# Altium schematic symbol library MOS管.SchLib: 8 symbols
Pins are listed as number, name and electrical type; pins without a type are passive.

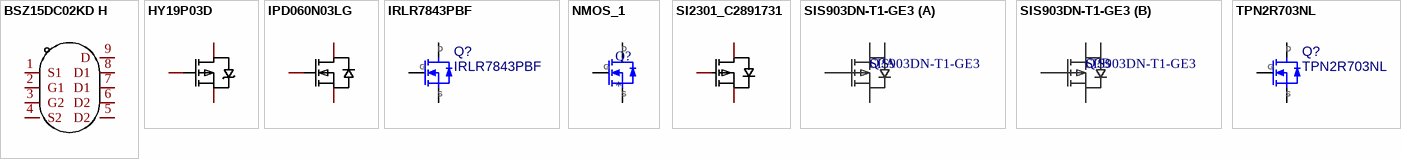
[diagram p0: symbols BSZ15DC02KD H to TPN2R703NL]

## BSZ15DC02KD H
designator Q??  (value not drawn)
Manufacturer: Infineon(英飞凌); Add into BOM: yes; Name: BSZ15DC02KD H; Symbol: BSZ15DC02KD H; Device: BSZ15DC02KD H; LCSC Part Name: BSZ15DC02KD H; Supplier Part: C534710; Manufacturer Part: BSZ15DC02KD H; Supplier Footprint: TSDSON-8(3.3x3.3); JLCPCB Part Class: Extended Part; Datasheet: https://atta.szlcsc.com/upload/public/pdf/source/20200519/C534710_F3CBDCD13CCB82028A5A6F9EF6190EE5.pdf; Supplier: LCSC; Convert to PCB: yes; Type: -; Drain Source Voltage (Vdss): -; Continuous Drain Current (Id): -; Power Dissipation (Pd): -; Drain Source On Resistance (RDS(on)@Vgs,Id): -; Gate Threshold Voltage (Vgs(th)@Id): -; Total Gate Charge (Qg@Vgs): -; Input Capacitance (Ciss@Vds): -; Reverse Transfer Capacitance (Crss@Vds): -
footprint PG-TSDSON-8_L3.3-W3.3-P0.65-BL
3D model PG-TSDSON-8_L3.3-W3.3-H1.0-P0.65
pins: 1 S1, 2 G1, 3 G2, 4 S2, 5 D2, 6 D2, 7 D1, 8 D1, 9 D

## HY19P03D
designator Q??  (value not drawn)
Manufacturer: HUAYI(华羿微); Add into BOM: yes; Type: P沟道; Drain Source Voltage (Vdss): 30V; Continuous Drain Current (Id): 90A; Power Dissipation (Pd): 50W; Drain Source On Resistance (RDS(on)@Vgs,Id): 6mΩ@10V,45A; Gate Threshold Voltage (Vgs(th)@Id): 3V@250uA; Symbol: HY19P03D; Device: HY19P03D; LCSC Part Name: P沟道 耐压:30V 电流:90A; Supplier Part: C122492; Manufacturer Part: HY19P03D; Supplier Footprint: TO-252-2; JLCPCB Part Class: Extended Part; Datasheet: https://atta.szlcsc.com/upload/public/pdf/source/20170728/C122492_1501225751911848809.pdf; Supplier: LCSC; Convert to PCB: yes
footprint TO-252-2_L6.6-W6.1-P4.57-LS9.9-TL-CW
footprint SOT-23-3_L2.9-W1.3-P1.90-LS2.4-BR
pins: 1 G, 2 D, 3 S

## IPD060N03LG
designator Q??  (value not drawn)
Manufacturer: Infineon(英飞凌); Add into BOM: yes; Type: 1个N沟道; Drain Source Voltage (Vdss): 30V; Continuous Drain Current (Id): 50A; Power Dissipation (Pd): 56W; Drain Source On Resistance (RDS(on)@Vgs,Id): 6mΩ@10V,30A; Gate Threshold Voltage (Vgs(th)@Id): 2.2V@250uA; Symbol: IPD060N03LG; Device: IPD060N03LG; LCSC Part Name: 1个N沟道 耐压:30V 电流:50A; Supplier Part: C94407; Manufacturer Part: IPD060N03LG; Supplier Footprint: TO-252-3; JLCPCB Part Class: Extended Part; Datasheet: https://atta.szlcsc.com/upload/public/pdf/source/20170120/1484891318681.pdf; Supplier: LCSC; Convert to PCB: yes
footprint TO-252-2_L6.6-W6.1-P4.57-LS9.9-TL-CW
pins: 1 G, 2 D, 3 S

## IRLR7843PBF
designator Q?
footprint TO-252-2_L6.6-W6.1-P4.57-LS9.9-TL-CW
pins: 1 D, 2 G, 3 S

## NMOS_1
designator Q?
footprint SOT-23-3_L2.9-W1.3-P1.90-LS2.4-BR
pins: 1 G, 2 S, 3 D

## SI2301_C2891731
designator Q??  (value not drawn)
Manufacturer: YONGYUTAI(永裕泰); Manufacturer Part: SI2301; Add into BOM: yes; Type: P沟道; Drain Source Voltage (Vdss): 20V; Continuous Drain Current (Id): 2.2A; Power Dissipation (Pd): 700mW; Drain Source On Resistance (RDS(on)@Vgs,Id): 120mΩ@4.5V,1.5A; Gate Threshold Voltage (Vgs(th)@Id): 1.5V@250uA; Input Capacitance (Ciss@Vds): 200pF@10V; Symbol: SI2301_C2891731; Device: SI2301_C2891731; Supplier: LCSC; Supplier Part: C2891731; JLCPCB Part Class: Extended Part; LCSC Part Name: P沟道 耐压:20V 电流:2.2A; Supplier Footprint: SOT-23; Datasheet: https://atta.szlcsc.com/upload/public/pdf/source/20210901/BD7F488CADB80954861F21BEE026F08A.pdf; Convert to PCB: yes; Total Gate Charge (Qg@Vgs): -; Reverse Transfer Capacitance (Crss@Vds): -; Operating Temperature: -
footprint SOT-23-3_L2.9-W1.3-P1.90-LS2.4-BR
pins: 1 G, 2 S, 3 D

## SIS903DN-T1-GE3
designator Q?
数量:2个P沟道;漏源电压(Vdss):20V;连续漏极电流(Id):6A;导通电阻(RDS(on)):40mΩ@1.8V;耗散功率(Pd):2.6W;阈值电压(Vgs(th)):1V;; Manufacturer: VISHAY(威世); SEEX_AUTHOR: ref42; SEEX_COMPONENT_ID: C3279452; Current - Continuous Drain(Id): 6A; Drain to Source Voltage: 20V; Gate Charge(Qg): 42nC@4.5V; Gate Threshold Voltage (Vgs(th)): 1V; Input Capacitance(Ciss): 2.565nF; Number: 2个P沟道; Pd - Power Dissipation: 2.6W; Reverse Transfer Capacitance (Crss@Vds): 240pF; Type: P沟道; SEEX_PROJECT_URL: https://github.com/ref42/seex; Footprint: DFN-8_L3.3-W3.3-P0.65-BL_PED30D12M; Datasheet: https://item.szlcsc.com/datasheet/SIS903DN-T1-GE3/3842350.html; JLCPCB Part Class: Extended Part; LCSC Part Name: 双P沟道,电流:6A,耐压:-20V; Manufacturer Part: SIS903DN-T1-GE3; Operating Temperature: -55℃~+150℃; RDS(on): 40mΩ@1.8V; Supplier: LCSC; Supplier Footprint: PowerPAK1212-8; Supplier Part: C3279452
footprint DFN-8_L3.3-W3.3-P0.65-BL_PED30D12M (DFN(3.3x3.3); WSON-8(3.3x3.3); PDFN3.3x3.3-8L; DFN-8-3X3; DFN-8(3.3x3.3); PowerPAK1212-8; PowerDI3333-8; DFN-8; PDFN3.3X3.3; PDFN3333; DFN-8-EP(3.2x3.1); DFN3.3x3.3-8L)
part A pins: 1 S, 2 G, 7 D, 8 D
part B pins: 3 S, 4 G, 5 D, 6 D

## TPN2R703NL
designator Q?
东芝 N沟 MOS
footprint TSON3x3
pins: 1 D, 2 G, 3 S